# EAGLE library part LMR50410 (library omcPwrSupply)
TI- LMR50410-Q1 SIMPLE SWITCHER 4-V to 36-V, 1-A Buck Converter Up to 1A output current Operating input voltage from 4V to 36V Output voltage adjustable from 1V to 28V Low dropout operation: 98% duty cycle 2.1MHz Internally fixed frequency TI Datasheet <https://www.ti.com/lit/ds/symlink/lmr50410-q1.pdf>
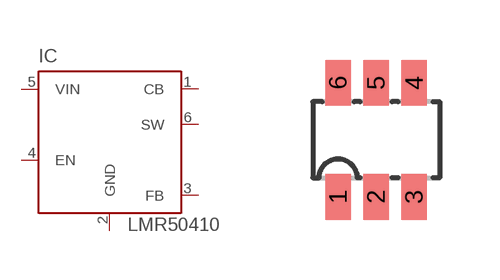
[diagram p9: symbol with the pads of SOT23-6; footprint SOT23-6]

Designator prefix IC

## LMR50410 (VALUE: LMR50410; VENDOR#: TI,LMR50410YQDBVRQ1)  [SOT23-6]
1  CB  pas
2  GND  pwr
3  FB  pas
4  EN  pas
5  VIN  pwr
6  SW  out

## Footprint SOT23-6 (pad centres in mm)
SOT23 6-lead Package SOT23-6, SOT-23/6 Technology: SMD Mechanical reference <http://www.vishay.com/docs/72821/72821.pdf> (Vishay)
smd 0.635 x 1.143: 1 -0.953,-1.429; 2 0,-1.429; 3 0.953,-1.429; 4 0.953,1.429; 5 0,1.429; 6 -0.953,1.429